# EAGLE library part CAT24WC33 (library merriman)
Catalyst 32Kbit I2C Serial EEPROM
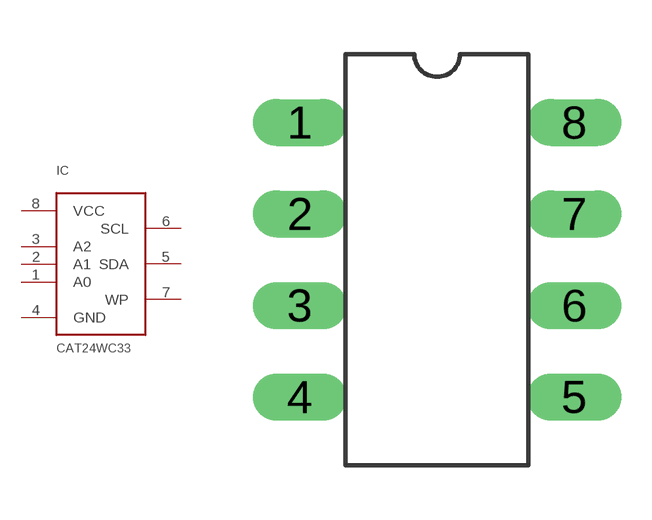
[diagram p2: symbol with the pads of DIP-8; footprint DIP-8]

Designator prefix IC

## CAT24WC33  [DIP-8]
1  A0
2  A1
3  A2
4  GND
5  SDA
6  SCL
7  WP
8  VCC

## Footprint DIP-8 (pad centres in mm)
drill 0.8 long: 1 -3.81,5.08; 2 -3.81,2.54; 3 -3.81,0; 4 -3.81,-2.54; 5 3.81,-2.54; 6 3.81,0; 7 3.81,2.54; 8 3.81,5.08